# Altium footprint library SMD-Res-Cap.PcbLib: 11 footprints
Each footprint in its own frame and in the unit in brackets; x right, y up, seen from the top. Pads: shape width x height; smd on the part's side, far side on the other; paste and mask are expansions set on the pad; w line width, h text height; cw(c..) or ccw(c..) is an arc to the next point about the centre after c.
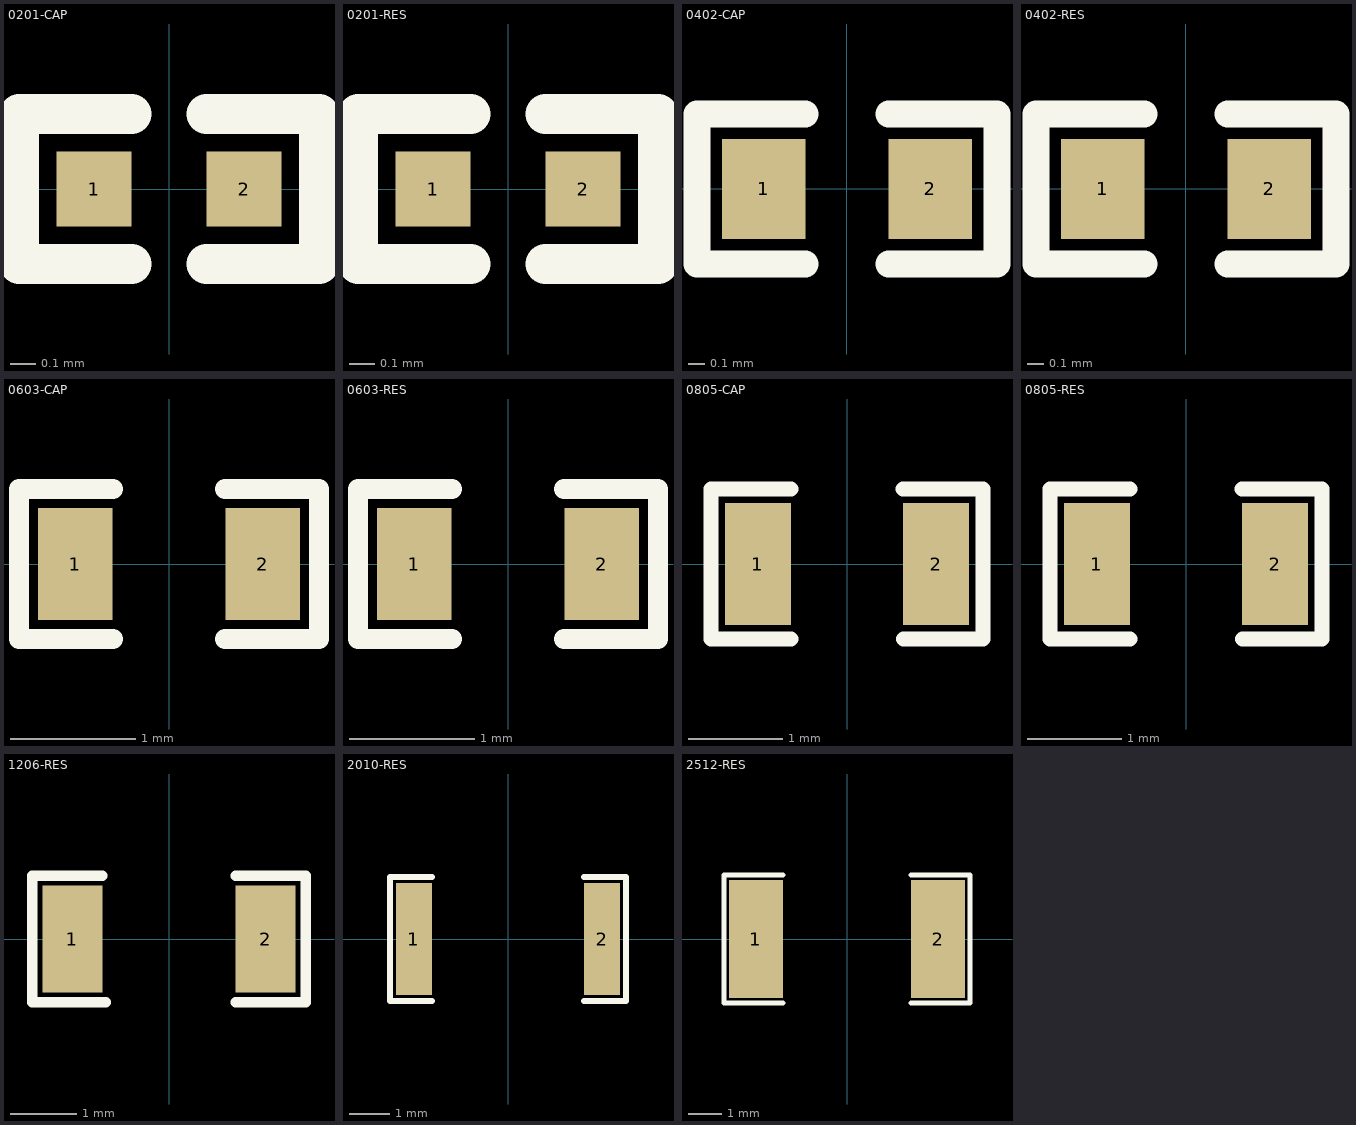
[diagram p0: the footprints below, top view; thin cyan lines are the x and y axes]

## 0201-CAP [mm]
pads (2):
  rect 0.3x0.3 smd: 1(-0.3,0) 2(0.3,0)
Top Overlay:
  lines w0.16: -0.15,-0.3 -0.6,-0.3 -0.6,0.3 -0.15,0.3 ; 0.15,-0.3 0.6,-0.3 0.6,0.3 0.15,0.3
3D body "C0201.step": height 0.35, standoff 0, extent -0.3,-0.15 0.3,0.15

## 0201-RES [mm]
pads (2):
  rect 0.3x0.3 smd: 1(-0.3,0) 2(0.3,0)
Top Overlay:
  lines w0.16: -0.15,-0.3 -0.6,-0.3 -0.6,0.3 -0.15,0.3 ; 0.15,-0.3 0.6,-0.3 0.6,0.3 0.15,0.3
3D body "0201.STEP": height 0.23, standoff 0, extent -0.3,-0.15 0.3,0.15

## 0402-CAP [mm]
pads (2):
  rect 0.5x0.6 smd: 1(-0.5,0) 2(0.5,0)
Top Overlay:
  lines w0.16: -0.25,-0.45 -0.9,-0.45 -0.9,0.45 -0.25,0.45 ; 0.25,-0.45 0.9,-0.45 0.9,0.45 0.25,0.45
3D body "C0402.step": height 0.45, standoff 0, extent -0.5,-0.25 0.5,0.25

## 0402-RES [mm]
pads (2):
  rect 0.5x0.6 smd: 1(-0.5,0) 2(0.5,0)
Top Overlay:
  lines w0.16: -0.25,-0.45 -0.9,-0.45 -0.9,0.45 -0.25,0.45 ; 0.25,-0.45 0.9,-0.45 0.9,0.45 0.25,0.45
3D body "0402.STEP": height 0.35, standoff 0, extent -0.5,-0.25 0.5,0.25

## 0603-CAP [mm]
pads (2):
  rect 0.6x0.9 smd: 1(-0.75,0) 2(0.75,0)
Top Overlay:
  lines w0.16: -0.45,-0.6 -1.2,-0.6 -1.2,0.6 -0.45,0.6 ; 0.45,-0.6 1.2,-0.6 1.2,0.6 0.45,0.6
3D body "C0603.step": height 0.6, standoff 0, extent -0.8,-0.4 0.8,0.4

## 0603-RES [mm]
pads (2):
  rect 0.6x0.9 smd: 1(-0.75,0) 2(0.75,0)
Top Overlay:
  lines w0.16: -0.45,-0.6 -1.2,-0.6 -1.2,0.6 -0.45,0.6 ; 0.45,-0.6 1.2,-0.6 1.2,0.6 0.45,0.6
3D body "0603.STEP": height 0.45, standoff 0, extent -0.8,-0.4 0.8,0.4

## 0805-CAP [mm]
pads (2):
  rect 0.7x1.3 smd: 1(-0.95,0) 2(0.95,0)
Top Overlay:
  lines w0.16: -0.6,-0.8 -1.45,-0.8 -1.45,0.8 -0.6,0.8 ; 0.6,-0.8 1.45,-0.8 1.45,0.8 0.6,0.8
3D body "C0805.step": height 0.85, standoff 0, extent -1,-0.625 1,0.625

## 0805-RES [mm]
pads (2):
  rect 0.7x1.3 smd: 1(-0.95,0) 2(0.95,0)
Top Overlay:
  lines w0.16: -0.6,-0.8 -1.45,-0.8 -1.45,0.8 -0.6,0.8 ; 0.6,-0.8 1.45,-0.8 1.45,0.8 0.6,0.8
3D body "0805.STEP": height 0.4, standoff 0, extent -1,-0.6 1,0.6

## 1206-RES [mm]
pads (2):
  rect 0.9x1.6 smd: 1(-1.45,0) 2(1.45,0)
Top Overlay:
  lines w0.16: -2.05,-0.95 -2.05,0.95 -1,0.95 ; -2,-0.95 -0.95,-0.95 ; 1,-0.95 2.05,-0.95 2.05,0.95 1,0.95
3D body "1206.STEP": height 0.5, standoff 0, extent -1.6,-0.8 1.6,0.8

## 2010-RES [mm]
pads (2):
  rect 0.9x2.8 smd: 1(-2.35,0) 2(2.35,0)
Top Overlay:
  lines w0.16: -1.9,-1.55 -2.95,-1.55 -2.95,1.55 -1.9,1.55 ; 1.9,-1.55 2.95,-1.55 2.95,1.55 1.9,1.55
3D body "2010.STEP": height 0.55, standoff 0, extent -2.5,-1.25 2.5,1.25

## 2512-RES [mm]
pads (2):
  rect 1.6x3.5 smd: 1(-2.7,0) 2(2.7,0)
Top Overlay:
  lines w0.16: -1.9,-1.9 -3.65,-1.9 -3.65,1.9 -1.9,1.9 ; 1.9,-1.9 3.65,-1.9 3.65,1.9 1.9,1.9
3D body "2512.STEP": height 0.55, standoff 0, extent -3.175,-1.6 3.175,1.6